# Altium schematic symbol library BL1117-33-AX.Schlib: 1 symbol
Pins are listed as number, name and electrical type; pins without a type are passive.

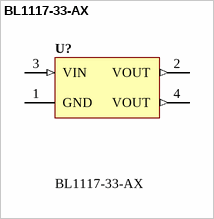
[diagram p0: symbol BL1117-33-AX]

## BL1117-33-AX
designator U?
Bipolar, Low dropout voltage, 3.3V Output 1A, SOT223
pins: 1 GND (power), 2 VOUT (out), 3 VIN (in), 4 VOUT (out)